# Altium footprint library DIP254P1524X572-28-ZIF-40_BLUE.PcbLib: 1 footprints
Each footprint in its own frame and in the unit in brackets; x right, y up, seen from the top. Pads: shape width x height; smd on the part's side, far side on the other; paste and mask are expansions set on the pad; w line width, h text height; cw(c..) or ccw(c..) is an arc to the next point about the centre after c.
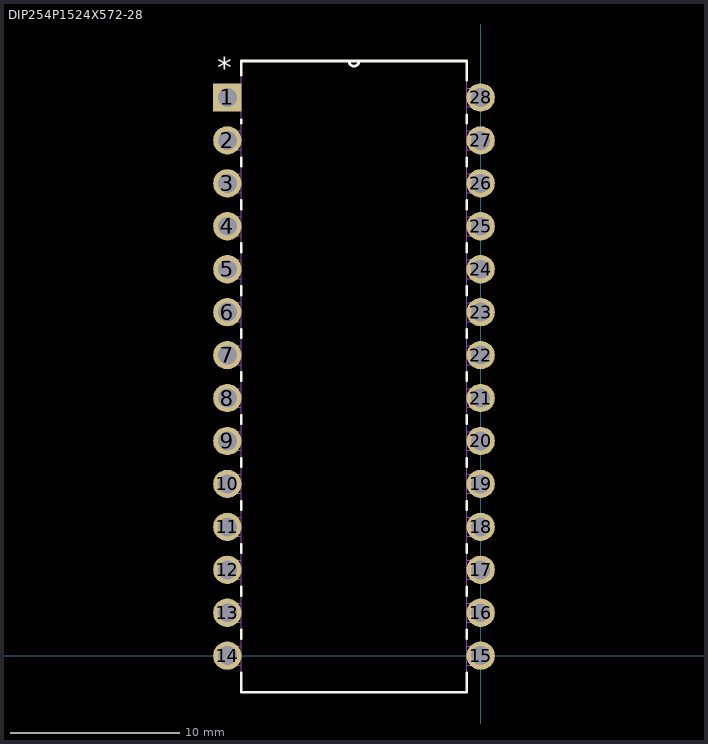
[diagram p0: the footprint, top view; thin cyan lines are the x and y axes]

## DIP254P1524X572-28 [mil]
pads (28):
  rect 66x66 / inner round 66 / far side rect 66x66 hole 44: 1(-590,1300)
  round 66 hole 44: 2(-590,1200) 3(-590,1100) 4(-590,1000) 5(-590,900) 6(-590,800) 7(-590,700) 8(-590,600) 9(-590,500) 10(-590,400) 11(-590,300) 12(-590,200) 13(-590,100) 14(-590,0) 15(0,0) 16(0,100) 17(0,200) 18(0,300) 19(0,400) 20(0,500) 21(0,600) 22(0,700) 23(0,800) 24(0,900) 25(0,1000) 26(0,1100) 27(0,1200) 28(0,1300)
Top Overlay:
  lines w6: -558,-40 -558,-85 -32,-85 -32,-40 ; -558,40 -558,60 ; -558,140 -558,160 ; -558,240 -558,260 ; -558,340 -558,360 ; -558,440 -558,460 ; -558,540 -558,560 ; -558,640 -558,660 ; -558,740 -558,760 ; -558,840 -558,860 ; -558,940 -558,960 ; -558,1040 -558,1060 ; -558,1140 -558,1160 ; -558,1240 -558,1248 ; -558,1352 -558,1385 -307,1385 ; -32,40 -32,60 ; -32,140 -32,160 ; -32,240 -32,260 ; -32,340 -32,360 ; -32,440 -32,460 ; -32,540 -32,560 ; -32,640 -32,660 ; -32,740 -32,760 ; -32,840 -32,860 ; -32,940 -32,960 ; -32,1040 -32,1060 ; -32,1140 -32,1160 ; -32,1240 -32,1260 ; -32,1340 -32,1385 -283,1385 ; -307,1385 ccw(c-295,1385) -283,1385 ; -307,1385 -283,1385
  text "*" at -613,1344 h50
Mechanical 13:
  lines w0: -307,1385 ccw(c-295,1385) -283,1385 ; -307,1385 -558,1385 -558,-85 -32,-85 -32,1385 -283,1385 ; -307,1385 -283,1385 ; -612,-22 -558,-22 -558,22 -612,22 -612,-22 ; -612,78 -558,78 -558,122 -612,122 -612,78 ; -612,178 -558,178 -558,222 -612,222 -612,178 ; -612,278 -558,278 -558,322 -612,322 -612,278 ; -612,378 -558,378 -558,422 -612,422 -612,378 ; -612,478 -558,478 -558,522 -612,522 -612,478 ; -612,578 -558,578 -558,622 -612,622 -612,578 ; -612,678 -558,678 -558,722 -612,722 -612,678 ; -612,778 -558,778 -558,822 -612,822 -612,778 ; -612,878 -558,878 -558,922 -612,922 -612,878 ; -612,978 -558,978 -558,1022 -612,1022 -612,978 ; -612,1078 -558,1078 -558,1122 -612,1122 -612,1078 ; -612,1178 -558,1178 -558,1222 -612,1222 -612,1178 ; -612,1278 -558,1278 -558,1322 -612,1322 -612,1278 ; -32,-22 22,-22 22,22 -32,22 -32,-22 ; -32,78 22,78 22,122 -32,122 -32,78 ; -32,178 22,178 22,222 -32,222 -32,178 ; -32,278 22,278 22,322 -32,322 -32,278 ; -32,378 22,378 22,422 -32,422 -32,378 ; -32,478 22,478 22,522 -32,522 -32,478 ; -32,578 22,578 22,622 -32,622 -32,578 ; -32,678 22,678 22,722 -32,722 -32,678 ; -32,778 22,778 22,822 -32,822 -32,778 ; -32,878 22,878 22,922 -32,922 -32,878 ; -32,978 22,978 22,1022 -32,1022 -32,978 ; -32,1078 22,1078 22,1122 -32,1122 -32,1078 ; -32,1178 22,1178 22,1222 -32,1222 -32,1178 ; -32,1278 22,1278 22,1322 -32,1322 -32,1278
  text "*" at -613,1344 h50
3D body "step_temp.STEP": height 658.27, standoff 271.65, extent -595.21,-76.77 5.38,1376.78
3D body "DIP40-ZIF-240-1280-00-0602J--3DModel-STEP-418109.STEP": height 930, standoff -110, extent -784.99,-864.99 150.01,1715.01